# EAGLE library part AM2901 (library dec-con)
AM2901 Microprocessor Slice
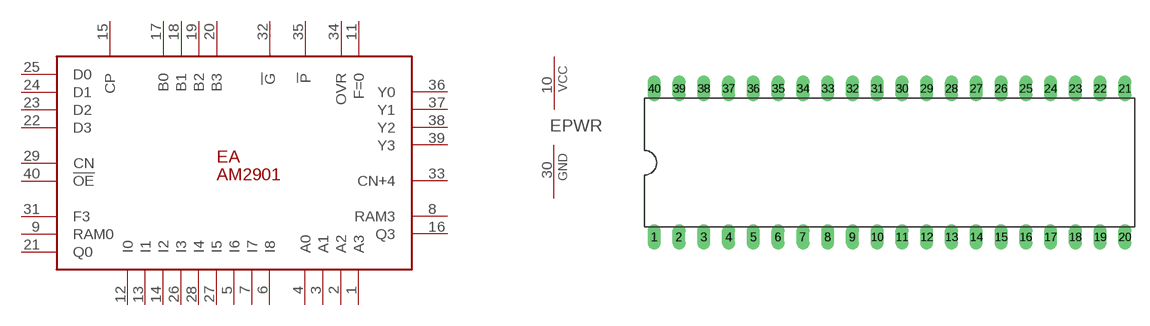
[diagram p115: symbol with the pads of DIL40; footprint DIL40]

Designator prefix E; gates A=AM2901 PWR=PWRN

## AM2901  [DIL40]
1  A:A3  in
2  A:A2  in
3  A:A1  in
4  A:A0  in
5  A:I6  in
6  A:I8  in
7  A:I7  in
8  A:RAM3
9  A:RAM0
10  PWR:VCC  pwr
11  A:F=0  out
12  A:I0  in
13  A:I1  in
14  A:I2  in
15  A:CP  in
16  A:Q3
17  A:B0  in
18  A:B1  in
19  A:B2  in
20  A:B3  in
21  A:Q0
22  A:D3  in
23  A:D2  in
24  A:D1  in
25  A:D0  in
26  A:I3  in
27  A:I5  in
28  A:I4  in
29  A:CN
30  PWR:GND  pwr
31  A:F3
32  A:!G  out
33  A:CN+4  out
34  A:OVR  out
35  A:!P  out
36  A:Y0  out
37  A:Y1  out
38  A:Y2  out
39  A:Y3  out
40  A:!OE

## Footprint DIL40 (pad centres in mm)
Dual In Line
drill 0.813 long: 1 -24.13,-7.62; 2 -21.59,-7.62; 3 -19.05,-7.62; 4 -16.51,-7.62; 5 -13.97,-7.62; 6 -11.43,-7.62; 7 -8.89,-7.62; 8 -6.35,-7.62; 9 -3.81,-7.62; 10 -1.27,-7.62; 11 1.27,-7.62; 12 3.81,-7.62; 13 6.35,-7.62; 14 8.89,-7.62; 15 11.43,-7.62; 16 13.97,-7.62; 17 16.51,-7.62; 18 19.05,-7.62; 19 21.59,-7.62; 20 24.13,-7.62; 21 24.13,7.62; 22 21.59,7.62; 23 19.05,7.62; 24 16.51,7.62; 25 13.97,7.62; 26 11.43,7.62; 27 8.89,7.62; 28 6.35,7.62; 29 3.81,7.62; 30 1.27,7.62; 31 -1.27,7.62; 32 -3.81,7.62; 33 -6.35,7.62; 34 -8.89,7.62; 35 -11.43,7.62; 36 -13.97,7.62; 37 -16.51,7.62; 38 -19.05,7.62; 39 -21.59,7.62; 40 -24.13,7.62